# EAGLE library part LIS3DHTR (library LIS3DHTR)
MEMS digital output motion sensor ultra low-power high performance 3-axes "nano" accelerometer
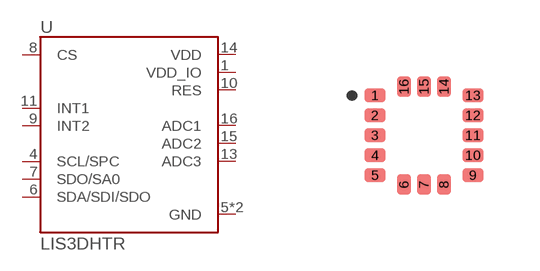
[diagram p0: symbol with the pads of LGA16R50P5X3_300X300X100N; footprint LGA16R50P5X3_300X300X100N]

Designator prefix U

## LIS3DHTR (AVAILABILITY: Unavailable; DESCRIPTION: MEMS digital output motion sensor ultra low-power high performance 3-axes nano accelerometer; MF: STMicroelectronics; MP: LIS3DHTR; PACKAGE: LGA-16 STMicroelectronics; PRICE: None)  [LGA16R50P5X3_300X300X100N]
1  VDD_IO  pwr
4  SCL/SPC  in
5  GND  pwr
6  SDA/SDI/SDO
7  SDO/SA0  out
8  CS  in
9  INT2  in
10  RES  pwr
11  INT1  in
12  GND  pwr
13  ADC3  in
14  VDD  pwr
15  ADC2  in
16  ADC1  in

## Footprint LGA16R50P5X3_300X300X100N (pad centres in mm)
smd 0.52 x 0.35: 1 -1.225,1; 2 -1.225,0.5; 3 -1.225,0; 4 -1.225,-0.5; 5 -1.225,-1; 9 1.225,-1; 10 1.225,-0.5; 11 1.225,0; 12 1.225,0.5; 13 1.225,1
smd 0.35 x 0.52: 6 -0.5,-1.225; 7 0,-1.225; 8 0.5,-1.225; 14 0.5,1.225; 15 0,1.225; 16 -0.5,1.225